# Altium footprint library laf.PcbLib: 14 footprints
Each footprint in its own frame and in the unit in brackets; x right, y up, seen from the top. Pads: shape width x height; smd on the part's side, far side on the other; paste and mask are expansions set on the pad; w line width, h text height; cw(c..) or ccw(c..) is an arc to the next point about the centre after c.
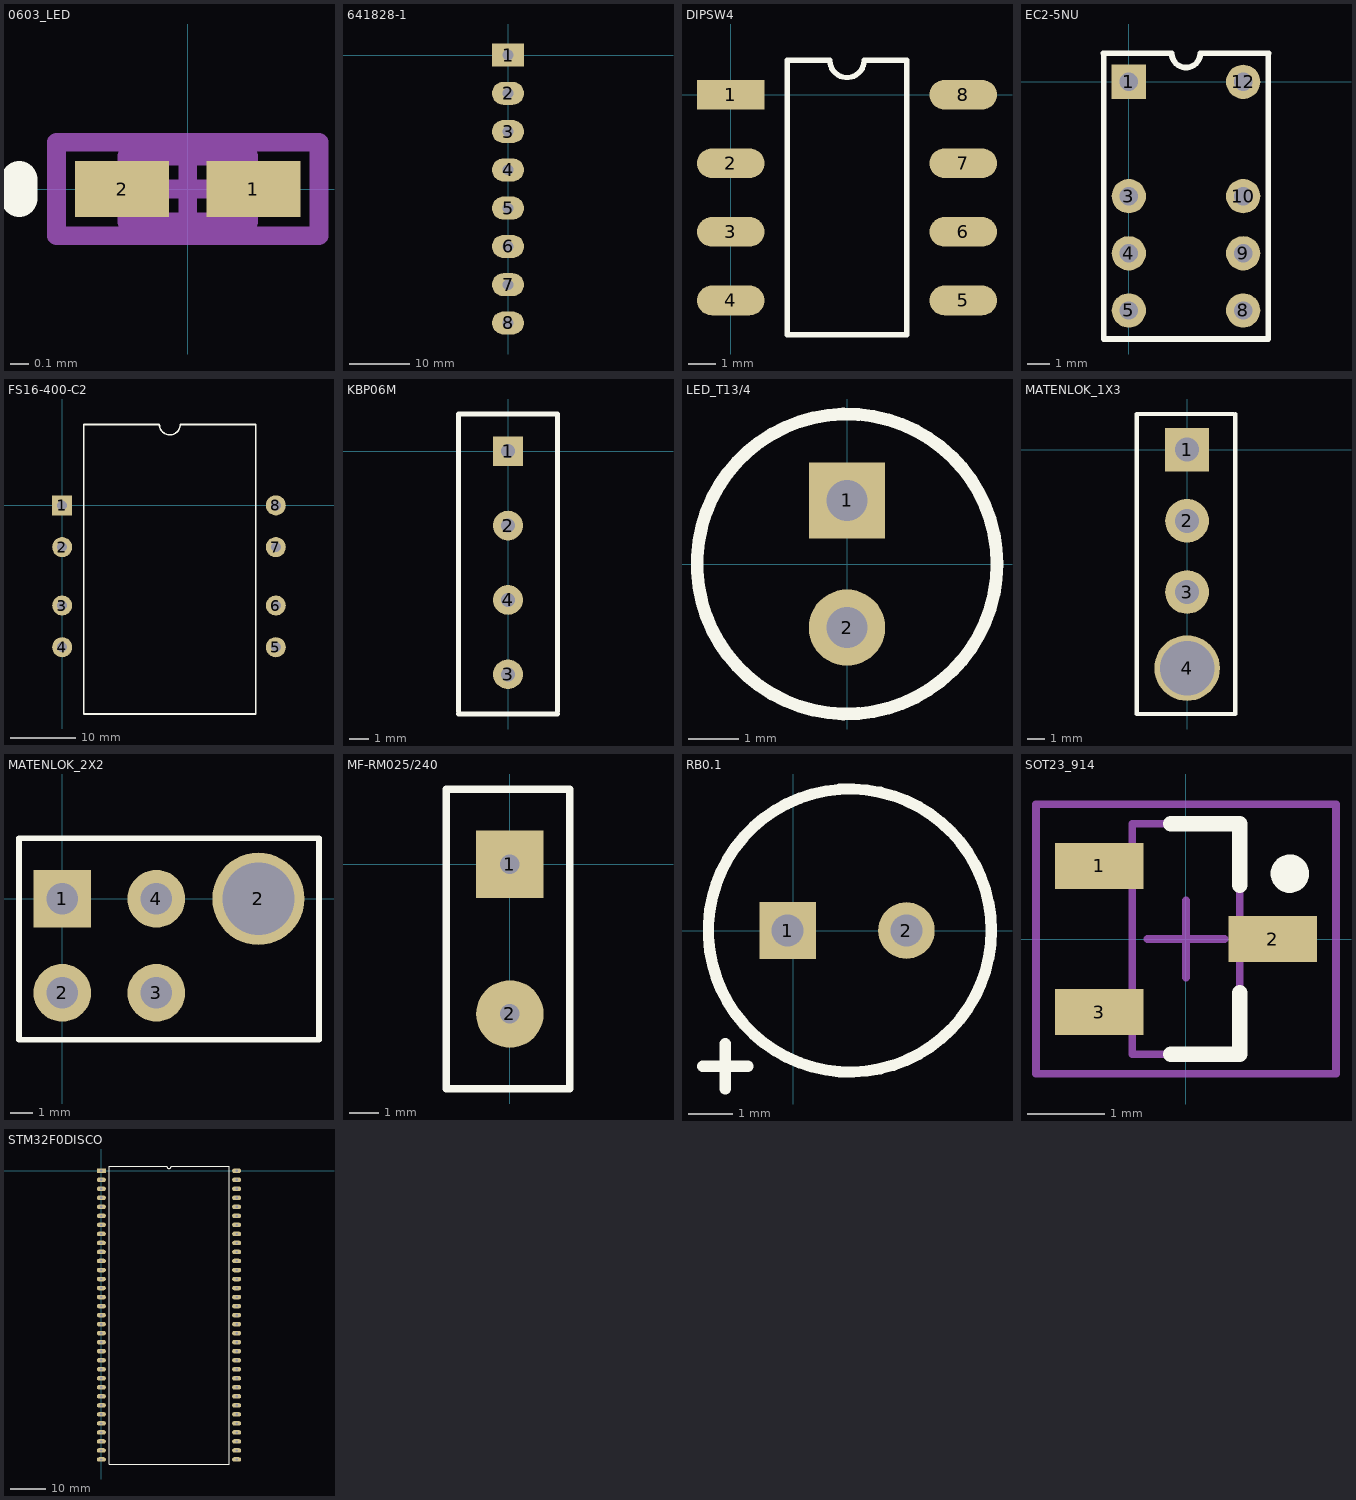
[diagram p0: the footprints below, top view; thin cyan lines are the x and y axes]

## 0603_LED [mm] "LED"
height 0.55
pads (2):
  rect 0.5x0.3 smd: 1(0.35,0) 2(-0.35,0)
Top Overlay:
  lines w0.2: -0.9,-0.05 -0.9,0.05
Mechanical 13:
  lines w0.1: -0.325,-0.175 0.325,-0.175 0.325,0.175 -0.325,0.175 -0.325,-0.175
Mechanical 15:
  lines w0.1: -0.175,0 0.175,0 ; 0,-0.175 0,0.175 ; -0.7,-0.25 0.7,-0.25 0.7,0.25 -0.7,0.25 -0.7,-0.25
3D body: height 0.55, standoff 0, extent -0.325,-0.175 0.325,0.175

## 641828-1 [mil] "TE MATENLOK"
pads (8):
  rect 210x150 hole 70: 1(0,0)
  oval 210x150 hole 70: 2(0,-250) 3(0,-500) 4(0,-750) 5(0,-1000) 6(0,-1250) 7(0,-1500) 8(0,-1750)

## DIPSW4 [mm]
pads (8):
  rect 2.5x1.1 smd: 1(0,0)
  oval 2.5x1.1 smd: 2(0,-2.54) 3(0,-5.08) 4(0,-7.62) 5(8.61,-7.62) 6(8.61,-5.08) 7(8.61,-2.54) 8(8.61,0)
Top Overlay:
  lines w0.2: 2.085,-8.89 2.085,1.27 3.67,1.27 ccw(c4.305,1.27) 4.94,1.27 6.525,1.27 6.525,-8.89 2.085,-8.89

## EC2-5NU [mil]
pads (8):
  rect 60x60 hole 32: 1(0,0)
  round 60 hole 32: 3(0,-200) 4(0,-300) 5(0,-400) 8(200,-400) 9(200,-300) 10(200,-200) 12(200,0)
Top Overlay:
  lines w10: -45,50 75,50 ccw(c100,50) 125,50 245,50 ; -44,-450 -44,50 ; -40,-450 244,-450 244,50

## FS16-400-C2 [mil]
pads (8):
  rect 120x120 hole 60: 1(0,0)
  round 120 hole 60: 2(0,-250) 3(0,-600) 4(0,-850) 5(1280,-850) 6(1280,-600) 7(1280,-250) 8(1280,0)
Top Overlay:
  lines w10: 130,-1250 130,485 582.5,485 ccw(c645,485) 707.5,485 1160,485 1160,-1250 130,-1250

## KBP06M [mil]
pads (4):
  rect 60x60 hole 28: 1(0,0)
  round 60 hole 28: 2(0,-150) 3(0,-450) 4(0,-300)
Top Overlay:
  lines w10: -100,-530 100,-530 ; -100,-525 -100,75 100,75 100,-525

## LED_T13/4 [mil]
pads (2):
  rect 60x60 hole 32: 1(0,50)
  round 60 hole 32: 2(0,-50)
Top Overlay:
  circle w10: c0,0 r118

## MATENLOK_1X3 [mil]
pads (4):
  rect 100x100 hole 55: 1(0,0)
  round 100 hole 55: 2(0,-163) 3(0,-326)
  round 150 hole 125: 4(0,-500)
Top Overlay:
  lines w10: 105,81.5 -115,81.5 -115,-605 110,-605 110,81.5

## MATENLOK_2X2 [mil]
pads (5):
  rect 100x100 hole 55: 1(0,0)
  round 100 hole 55: 2(0,-163) 3(163,-163) 4(163,0)
  round 160 hole 125: 2(340,0)
Top Overlay:
  lines w10: 40.75,105 445,105 445,-244.5 -75,-244.5 -75,105 122.25,105

## MF-RM025/240 [mil]
pads (2):
  rect 90x90 hole 26: 1(0,0)
  round 90 hole 26: 2(0,-200)
Top Overlay:
  lines w10: -85,-300 -85,100 80,100 80,-300 -85,-300

## PCBComponent_1 [mil]

## RB0.1 [mil]
pads (2):
  rect 50x50 hole 28: 1(-5,0)
  round 50 hole 28: 2(100,0)
Top Overlay:
  circle w10: c50,0 r125
  lines w10: -80,-120 -40,-120 ; -60,-140 -60,-100

## SOT23_914 [mm] "SOT23, 3-Leads, Body 2.9x1.3mm, Pitch 0.95mm, Lead Span 2.3mm - Reverse Pinning, IPC Medium Density"
height 1.1
pads (3):
  rect 1.15x0.6 smd: 1(-1.125,0.95) 2(1.125,0) 3(-1.125,-0.95)
Top Overlay:
  circle w0.25: c1.35,0.85 r0.125
  lines w0.2: -0.2,-1.5 0.7,-1.5 0.7,-0.7 ; -0.2,1.5 0.7,1.5 0.7,0.7
Mechanical 13:
  lines w0.1: -0.7,-1.5 -0.7,1.5 0.7,1.5 0.7,-1.5 -0.7,-1.5
Mechanical 15:
  lines w0.1: -0.5,0 0.5,0 ; 0,-0.5 0,0.5 ; -1.95,-1.75 -1.95,1.75 1.95,1.75 1.95,-1.75 -1.95,-1.75
3D body: height 1.1, standoff 0, extent -0.7,-1.5 0.7,1.5

## STM32F0DISCO [mil]
pads (66):
  rect 100x50 hole 25: 1(0,0)
  oval 100x50 hole 25: 2(0,-100) 3(0,-200) 4(0,-300) 5(0,-400) 6(0,-500) 7(0,-600) 8(0,-700) 9(0,-800) 10(0,-900) 11(0,-1000) 12(0,-1100) 13(0,-1200) 14(0,-1300) 15(0,-1400) 16(0,-1500) 17(0,-1600) 18(0,-1700) 19(0,-1800) 20(0,-1900) 21(0,-2000) 22(0,-2100) 23(0,-2200) 24(0,-2300) 25(0,-2400) 26(0,-2500) 27(0,-2600) 28(0,-2700) 29(0,-2800) 30(0,-2900) 31(0,-3000) 32(0,-3100) 33(0,-3200) 34(1500,-3200) 35(1500,-3100) 36(1500,-3000) 37(1500,-2900) 38(1500,-2800) 39(1500,-2700) 40(1500,-2600) 41(1500,-2500) 42(1500,-2400) 43(1500,-2300) 44(1500,-2200) 45(1500,-2100) 46(1500,-2000) 47(1500,-1900) 48(1500,-1800) 49(1500,-1700) 50(1500,-1600) 51(1500,-1500) 52(1500,-1400) 53(1500,-1300) 54(1500,-1200) 55(1500,-1100) 56(1500,-1000) 57(1500,-900) 58(1500,-800) 59(1500,-700) 60(1500,-600) 61(1500,-500) 62(1500,-400) 63(1500,-300) 64(1500,-200) 65(1500,-100) 66(1500,0)
Top Overlay:
  lines w10: 85,-3250 85,50 725,50 ccw(c750,50) 775,50 1415,50 1415,-3250 85,-3250